# Altium schematic symbol library STM32G071RBI6.SchLib: 1 symbol
Pins are listed as number, name and electrical type; pins without a type are passive.

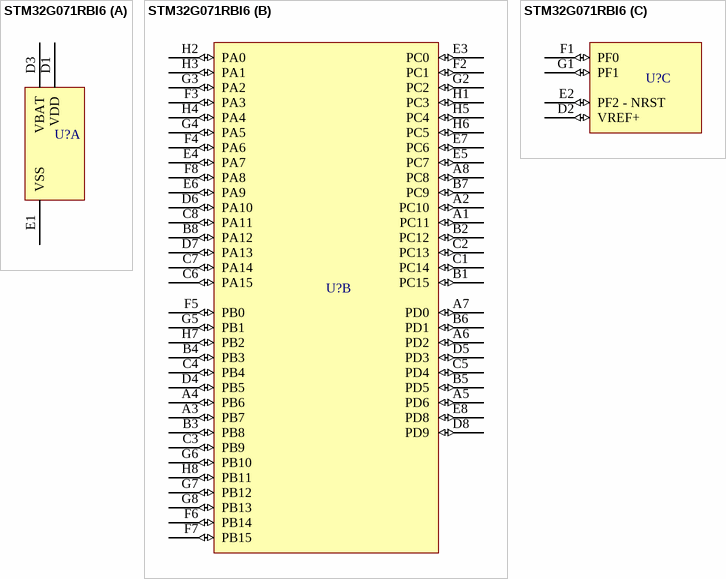
[diagram p0: symbol STM32G071RBI6]

## STM32G071RBI6
designator U?  (value not drawn)
Mainstream Arm Cortex-M0+ MCU with 128 Kbytes of Flash memory, 36 Kbytes RAM, 64 MHz CPU, 4x USART, timers, ADC, DAC, comm. I/F, 1.7-3.6V
part A pins: D1 VDD (power), D3 VBAT (power), E1 VSS (power)
part B pins: A1 PC11 (io), A2 PC10 (io), A3 PB7 (io), A4 PB6 (io), A5 PD6 (io), A6 PD2 (io), A7 PD0 (io), A8 PC8 (io), B1 PC15 (io), B2 PC12 (io), B3 PB8 (io), B4 PB3 (io), B5 PD5 (io), B6 PD1 (io), B7 PC9 (io), B8 PA12 (io), C1 PC14 (io), C2 PC13 (io), C3 PB9 (io), C4 PB4 (io), C5 PD4 (io), C6 PA15 (io), C7 PA14 (io), C8 PA11 (io), D4 PB5 (io), D5 PD3 (io), D6 PA10 (io), D7 PA13 (io), D8 PD9 (io), E3 PC0 (io), E4 PA7 (io), E5 PC7 (io), E6 PA9 (io), E7 PC6 (io), E8 PD8 (io), F2 PC1 (io), F3 PA3 (io), F4 PA6 (io), F5 PB0 (io), F6 PB14 (io), F7 PB15 (io), F8 PA8 (io), G2 PC2 (io), G3 PA2 (io), G4 PA5 (io), G5 PB1 (io), G6 PB10 (io), G7 PB12 (io), G8 PB13 (io), H1 PC3 (io), H2 PA0 (io), H3 PA1 (io), H4 PA4 (io), H5 PC4 (io), H6 PC5 (io), H7 PB2 (io), H8 PB11 (io)
part C pins: D2 VREF+ (io), E2 PF2 - NRST (io), F1 PF0 (io), G1 PF1 (io)